# Altium footprint library PCBLIB1.PCBLIB: 42 footprints (part 2 of 3)
Each footprint in its own frame and in the unit in brackets; x right, y up, seen from the top. Pads: shape width x height; smd on the part's side, far side on the other; paste and mask are expansions set on the pad; w line width, h text height; cw(c..) or ccw(c..) is an arc to the next point about the centre after c.
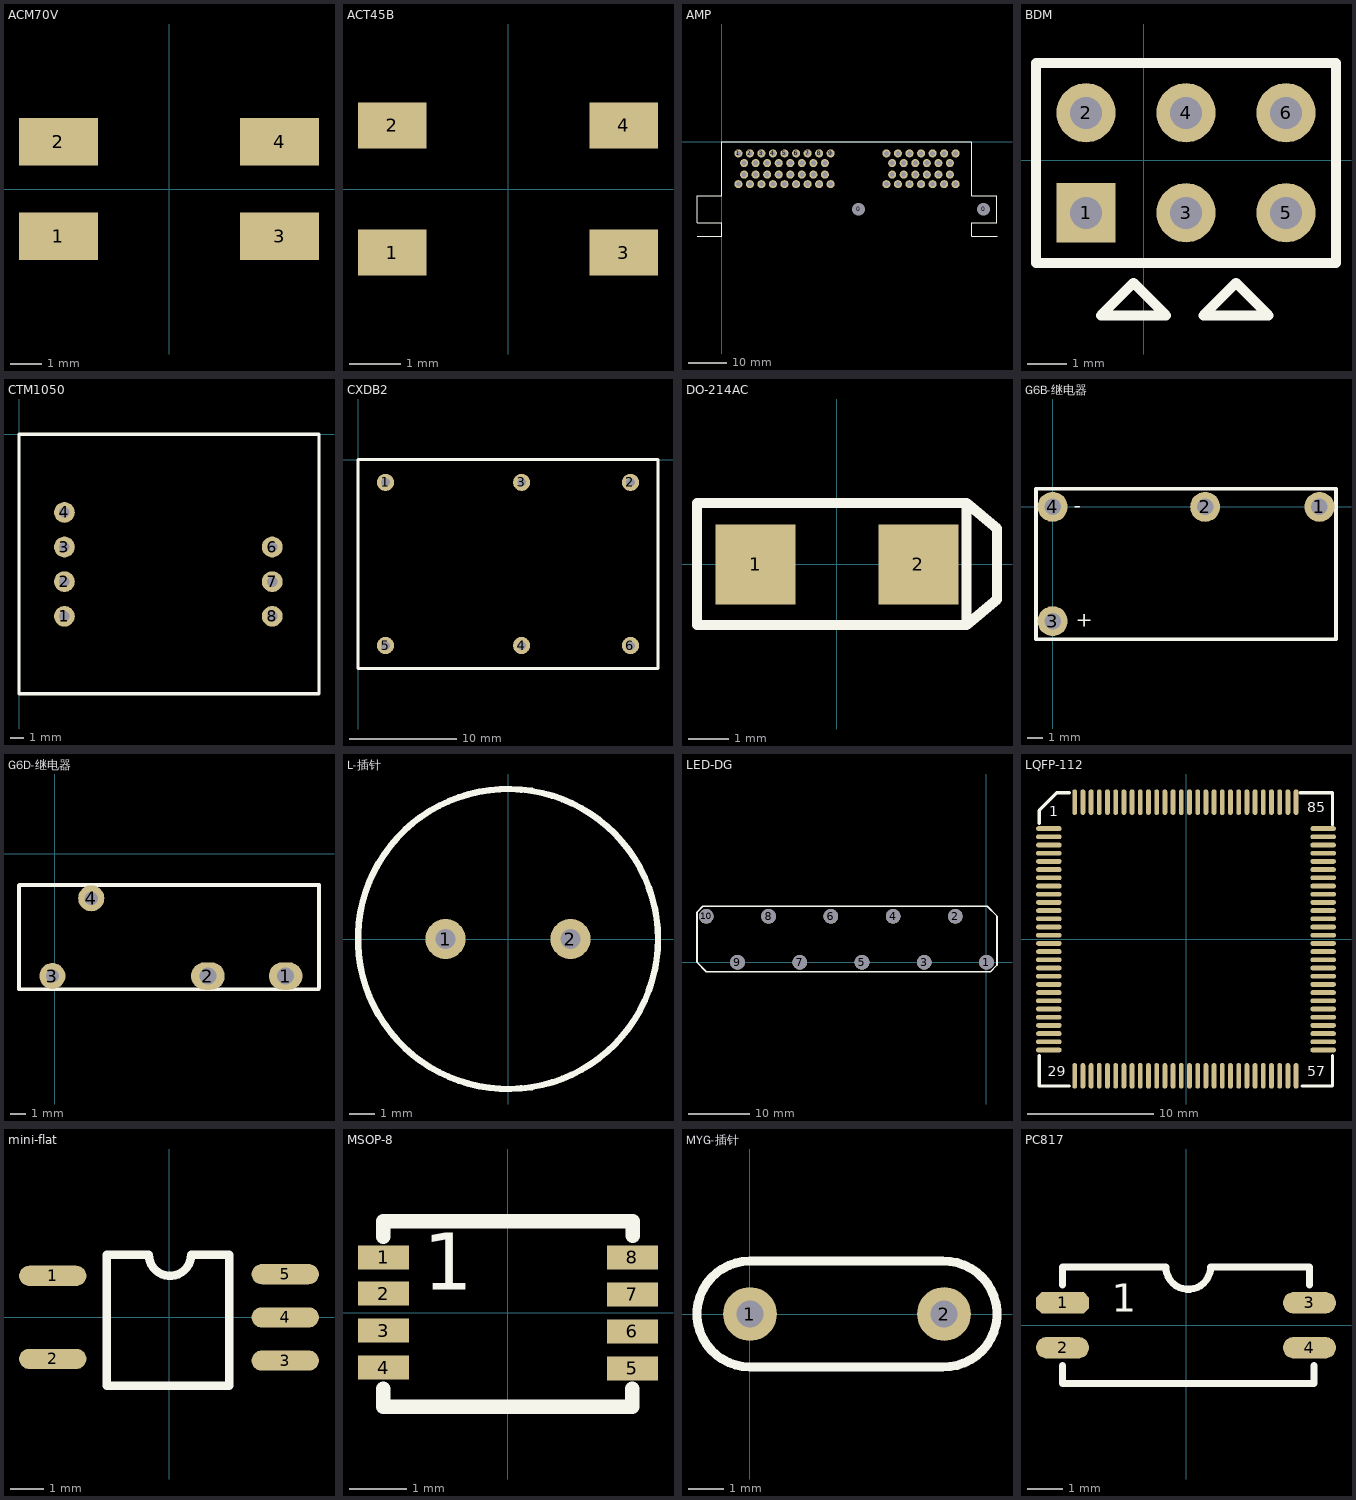
[diagram p1: the footprints below, top view; thin cyan lines are the x and y axes]

## ACM70V [mm]
pads (4):
  rect 2.5x1.5 smd: 1(-3.5,-1.5) 2(-3.5,1.5) 3(3.5,-1.5) 4(3.5,1.5)

## ACT45B [mm]
pads (4):
  rect 1.35x0.9 smd: 1(-2.275,-1.25) 2(-2.275,1.25) 3(2.275,-1.25) 4(2.275,1.25)

## AMP [mm]
pads (62):
  round 2.1 hole 3.3: 0(35.5,-17.5) 0(68,-17.5)
  round 2.1 hole 1.3: 1(4.25,-3) 2(7.25,-3) 3(10.25,-3) 4(13.25,-3) 5(16.25,-3) 6(19.25,-3) 7(22.25,-3) 8(25.25,-3) 9(28.25,-3) 10(5.75,-5.5) 11(8.75,-5.5) 12(11.75,-5.5) 13(14.75,-5.5) 14(17.75,-5.5) 15(20.75,-5.5) 16(23.75,-5.5) 17(26.75,-5.5) 18(5.75,-8.5) 19(8.75,-8.5) 20(11.75,-8.5) 21(14.75,-8.5) 22(17.75,-8.5) 23(20.75,-8.5) 24(23.75,-8.5) 25(26.75,-8.5) 26(4.25,-11) 27(7.25,-11) 28(10.25,-11) 29(13.25,-11) 30(16.25,-11) 31(19.25,-11) 32(22.25,-11) 33(25.25,-11) 34(28.25,-11) 35(42.75,-3) 36(45.75,-3) 37(48.75,-3) 38(51.75,-3) 39(54.75,-3) 40(57.75,-3) 41(60.75,-3) 42(44.25,-5.5) 43(47.25,-5.5) 44(50.25,-5.5) 45(53.25,-5.5) 46(56.25,-5.5) 47(59.25,-5.5) 48(44.25,-8.5) 49(47.25,-8.5) 50(50.25,-8.5) 51(53.25,-8.5) 52(56.25,-8.5) 53(59.25,-8.5) 54(42.75,-11) 55(45.75,-11) 56(48.75,-11) 57(51.75,-11) 58(54.75,-11) 59(57.75,-11) 60(60.75,-11)
TopOverlay:
  lines w0.254: -6.477,-24.511 0,-24.5 0,-21 -6.5,-21 -6.5,-14 0,-14 0,0 65,0 65,-14 71.5,-14 71.5,-21 65,-21 65,-24.5 71.501,-24.511

## BDM [mil]
pads (6):
  rect 59.06x59.06 hole 32: 1(-57.5,-52.5)
  round 59.06 hole 32: 2(-57.5,47.5) 3(42.5,-52.5) 4(42.5,47.5) 5(142.5,-52.5) 6(142.5,47.5)
TopOverlay:
  lines w10: -107.5,-102.5 192.5,-102.5 192.5,-2.5 192.5,97.5 -107.5,97.5 -107.5,-2.5 -107.5,-102.5 ; -42.5,-155 -10,-122.5 22.5,-155 -42.5,-155 ; 60,-155 92.5,-122.5 125,-155 60,-155

## CTM1050 [mil]
pads (7):
  round 60 hole 30: 1(131.1,-525) 2(131.1,-425) 3(131.1,-325) 4(131.1,-225) 6(731.1,-325) 7(731.1,-425) 8(731.1,-525)
TopOverlay:
  lines w10: 0,-748.03 0,0 866.14,0 866.14,-748.03 0,-748.03

## CXDB2 [mm]
pads (6):
  round 1.6 hole 0.8: 1(2.57,-2.13) 2(25.43,-2.13) 3(15.27,-2.13) 4(15.27,-17.36) 5(2.57,-17.36) 6(25.43,-17.36)
TopOverlay:
  lines w0.254: 0,-19.5 0,0 28,0 28,-19.5 0,-19.5

## DO-214AC [mm]
pads (2):
  rect 2x2 smd: 1(-2.032,0) 2(2.032,0)
TopOverlay:
  lines w0.254: 3.236,1.407 3.236,-1.514 ; 3.236,-1.514 3.998,-0.879 3.998,0.899 3.236,1.534 -3.495,1.534 -3.495,-1.514 3.236,-1.514

## G6B-继电器 [mm]
pads (4):
  round 2 hole 1.1: 1(17.78,0) 2(10.16,0) 3(0,-7.62) 4(0,0)
TopOverlay:
  lines w0.254: -1.11,-8.82 18.88,-8.82 18.88,1.2 -1.11,1.2 -1.11,-8.82
  text "-" at 1.397,-0.381 h1
  text "+" at 1.524,-8.001 h1

## G6D-继电器 [mm]
pads (4):
  oval 2.2x1.8 hole 1.1: 1(15.08,-8) 2(10,-8)
  round 1.7 hole 0.85: 3(-0.16,-8) 4(2.38,-2.92)
TopOverlay:
  lines w0.254: -2.34,-2.095 -2.34,-8.86 17.23,-8.86 ; -2.305,-2.06 17.26,-2.06 17.26,-8.763

## L-插针 [mm]
pads (2):
  round 1.6 hole 0.8: 1(-2.5,0) 2(2.5,0)
TopOverlay:
  circle w0.254: c0,0 r6

## LED-DG [mm]
pads (10):
  round 2.4 hole 2.4: 1(0,0) 2(-5.08,7.5) 3(-10.16,0) 4(-15.24,7.5) 5(-20.32,0) 6(-25.4,7.5) 7(-30.48,0) 8(-35.56,7.5) 9(-40.64,0) 10(-45.72,7.5)
TopOverlay:
  lines w0.254: -0.889,9.144 0.127,9.144 ; 0.127,9.144 -46.164,9.144 -46.291,9.144 -47.244,8.191 -47.244,7.874 -47.244,0.254 -47.244,0 -45.72,-1.524 -44.64,-1.524 0.191,-1.524 0.635,-1.524 1.714,-0.445 1.714,-0.064 1.714,7.556 0.127,9.144

## LQFP-112 [mm]
pads (112):
  oval 2.032x0.38 smd: 1(-10.875,8.75) 2(-10.875,8.1) 3(-10.875,7.45) 4(-10.875,6.8) 5(-10.875,6.15) 6(-10.875,5.5) 7(-10.875,4.85) 8(-10.875,4.2) 9(-10.875,3.55) 10(-10.875,2.9) 11(-10.875,2.25) 12(-10.875,1.6) 13(-10.875,0.95) 14(-10.875,0.3) 15(-10.875,-0.35) 16(-10.875,-1) 17(-10.875,-1.65) 18(-10.875,-2.3) 19(-10.875,-2.95) 20(-10.875,-3.6) 21(-10.875,-4.25) 22(-10.875,-4.9) 23(-10.875,-5.55) 24(-10.875,-6.2) 25(-10.875,-6.85) 26(-10.875,-7.5) 27(-10.875,-8.15) 28(-10.875,-8.8) 57(10.875,-8.8) 58(10.875,-8.15) 59(10.875,-7.5) 60(10.875,-6.85) 61(10.875,-6.2) 62(10.875,-5.55) 63(10.875,-4.9) 64(10.875,-4.25) 65(10.875,-3.6) 66(10.875,-2.95) 67(10.875,-2.3) 68(10.875,-1.65) 69(10.875,-1) 70(10.875,-0.35) 71(10.875,0.3) 72(10.875,0.95) 73(10.875,1.6) 74(10.875,2.25) 75(10.875,2.9) 76(10.875,3.55) 77(10.875,4.2) 78(10.875,4.85) 79(10.875,5.5) 80(10.875,6.15) 81(10.875,6.8) 82(10.875,7.45) 83(10.875,8.1) 84(10.875,8.75)
  oval 0.38x2.032 smd: 29(-8.825,-10.85) 30(-8.175,-10.85) 31(-7.525,-10.85) 32(-6.875,-10.85) 33(-6.225,-10.85) 34(-5.575,-10.85) 35(-4.925,-10.85) 36(-4.275,-10.85) 37(-3.625,-10.85) 38(-2.975,-10.85) 39(-2.325,-10.85) 40(-1.675,-10.85) 41(-1.025,-10.85) 42(-0.375,-10.85) 43(0.275,-10.85) 44(0.925,-10.85) 45(1.575,-10.85) 46(2.225,-10.85) 47(2.875,-10.85) 48(3.525,-10.85) 49(4.175,-10.85) 50(4.825,-10.85) 51(5.475,-10.85) 52(6.125,-10.85) 53(6.775,-10.85) 54(7.425,-10.85) 55(8.075,-10.85) 56(8.725,-10.85) 85(8.725,10.85) 86(8.075,10.85) 87(7.425,10.85) 88(6.775,10.85) 89(6.125,10.85) 90(5.475,10.85) 91(4.825,10.85) 92(4.175,10.85) 93(3.525,10.85) 94(2.875,10.85) 95(2.225,10.85) 96(1.575,10.85) 97(0.925,10.85) 98(0.275,10.85) 99(-0.375,10.85) 100(-1.025,10.85) 101(-1.675,10.85) 102(-2.325,10.85) 103(-2.975,10.85) 104(-3.625,10.85) 105(-4.275,10.85) 106(-4.925,10.85) 107(-5.575,10.85) 108(-6.225,10.85) 109(-6.875,10.85) 110(-7.525,10.85) 111(-8.175,10.85) 112(-8.825,10.85)
TopOverlay:
  lines w0.254: -11.637,-9.234 -11.637,-11.647 -9.224,-11.647 ; -11.637,9.181 -11.637,10.197 -10.24,11.594 -9.224,11.594 ; 9.064,11.594 11.604,11.594 11.604,9.054 ; 9.191,-11.647 11.604,-11.647 11.604,-9.234
  text "57" at 9.625,-10.9 h0.8
  text "85" at 9.625,10.05 h0.8
  text "29" at -10.975,-10.9 h0.8
  text "1" at -10.825,9.75 h0.8

## mini-flat [mil]
pads (5):
  oval 80x24 smd: 1(-137.8,49.21) 2(-137.8,-49.21) 3(137.8,-51.18) 4(137.8,0) 5(137.8,51.18)
TopOverlay:
  lines w10: -73.8,-80.79 71.2,-80.79 71.2,74.21 26.2,74.21 cw(c1.2,74.21) -23.8,74.21 -73.8,74.21 -73.8,-80.79

## MSOP-8 [mm]
pads (8):
  rect 0.9x0.42 smd: 1(-2.187,0.975) 2(-2.187,0.34) 3(-2.187,-0.31) 4(-2.187,-0.96) 5(2.188,-0.975) 6(2.188,-0.325) 7(2.188,0.325) 8(2.188,0.975)
TopOverlay:
  lines w0.254: -2.194,-1.33 -2.194,-1.647 2.188,-1.647 2.188,-1.33 ; -2.194,1.337 -2.194,1.61 1.623,1.61 1.94,1.61 2.194,1.61 2.194,1.356
  text "1" at -1.489,0.403 h1

## MYG-插针 [mil]
pads (2):
  round 60 hole 30: 1(0,0) 2(216.54,0)
TopOverlay:
  lines w10: 0,-59.06 cw(c0,0) 0,59.06 215,59.06 cw(c216.54,0) 215,-59.06 0,-59.06

## PC817 [mm]
pads (4):
  oct 1.5x0.61 smd: 1(-3.492,0.635)
  oval 1.5x0.61 smd: 2(-3.492,-0.635) 3(3.492,0.635) 4(3.492,-0.635)
TopOverlay:
  lines w0.2: -3.492,-1.143 -3.492,-1.651 3.619,-1.651 3.619,-1.143 ; -3.492,1.143 -3.492,1.651 -0.572,1.651 ccw(c0.064,1.651) 0.699,1.651 3.492,1.651 3.492,1.143
  text "1" at -2.095,0.381 h0.8